# EAGLE library part SPARKFUN-MICROSD-BREAKOUT (library SteveMarple)
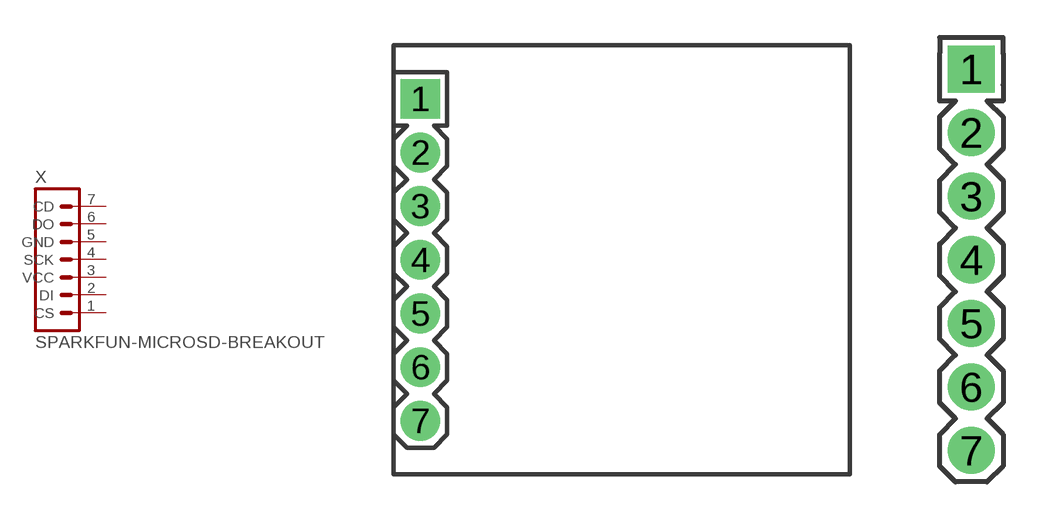
[diagram p3: symbol with the pads of SPARKFUN-MICROSD-BREAKOUT; footprints SPARKFUN-MICROSD-BREAKOUT, SPARKFUN-MICROSD-BREAKOUT-NO-NAMES-ON-SILK]

Designator prefix X

## SPARKFUN-MICROSD-BREAKOUT  [SPARKFUN-MICROSD-BREAKOUT]
1  CS  pas
2  DI  pas
3  VCC  pas
4  SCK  pas
5  GND  pas
6  DO  pas
7  CD  pas

## SPARKFUN-MICROSD-BREAKOUTNO-SILK  [SPARKFUN-MICROSD-BREAKOUT-NO-NAMES-ON-SILK]
Pads as for SPARKFUN-MICROSD-BREAKOUT

## Footprint SPARKFUN-MICROSD-BREAKOUT (pad centres in mm)
drill 1.016 pad 1.88 square: 1 -10.16,7.62
drill 1.016 pad 1.88: 2 -10.16,5.08; 3 -10.16,2.54; 4 -10.16,0; 5 -10.16,-2.54; 6 -10.16,-5.08; 7 -10.16,-7.62

## Footprint SPARKFUN-MICROSD-BREAKOUT-NO-NAMES-ON-SILK (pad centres in mm)
drill 1.016 pad 1.88 square: 1 -10.16,7.62
drill 1.016 pad 1.88: 2 -10.16,5.08; 3 -10.16,2.54; 4 -10.16,0; 5 -10.16,-2.54; 6 -10.16,-5.08; 7 -10.16,-7.62